# Altium schematic symbol library SMPS.SchLib: 3 symbols
Pins are listed as number, name and electrical type; pins without a type are passive.

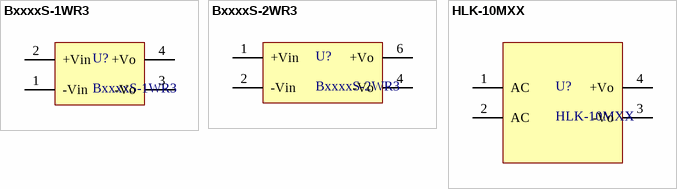
[diagram p0: symbols BxxxxS-1WR3 to HLK-10MXX]

## BxxxxS-1WR3
designator U?
DC-DC insulated power supply / B_S-1WR3 series / Mornsun / Hi-Link; ComponentLink1Description: New link; ComponentLink1URL: *
footprint B_S-1WR3 (Hi-Link / Mornsun / B_S-1WR3 series / DC-DC / Power Supply)
pins: 1 -Vin, 2 +Vin, 3 -Vo, 4 +Vo

## BxxxxS-2WR3
designator U?
DC-DC insulated power supply / B_S-2WR3 series / Mornsun / Hi-Link
footprint B_S-2WR3 (Hi-Link / Mornsun / B_S-1WR3 series / DC-DC / Power Supply)
pins: 1 +Vin, 2 -Vin, 4 -Vo, 6 +Vo

## HLK-10MXX
designator U?
10W Ultra-small Series Module Power Supply / AC-DC / 10M03/05/09/12/24 / Hi-Link
footprint HLK-10MXX
pins: 1 AC, 2 AC, 3 -Vo, 4 +Vo